# EAGLE library part MPL3115A2 (library freescale)
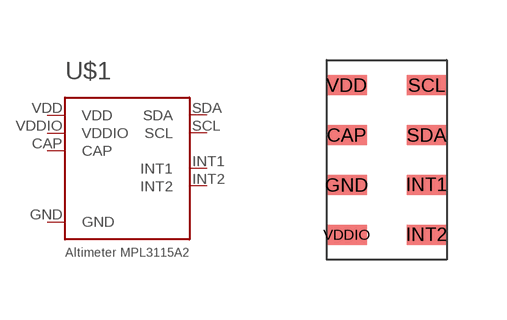
[diagram p0: symbol with the pads of LGA8; footprint LGA8]

Designator prefix -

## MPL3115A2  [LGA8]
CAP  CAP
GND  GND
INT1  INT1
INT2  INT2
SCL  SCL
SDA  SDA
VDD  VDD
VDDIO  VDDIO

## Footprint LGA8 (pad centres in mm)
smd 1 x 0.5: CAP -1.025,0.65; GND -1.025,-0.6; INT1 0.975,-0.6; INT2 0.975,-1.85; SCL 0.975,1.9; SDA 0.975,0.65; VDD -1.025,1.9; VDDIO -1.025,-1.85